# EAGLE library part MC9S08EL32-28 (library freescale-hcs08)
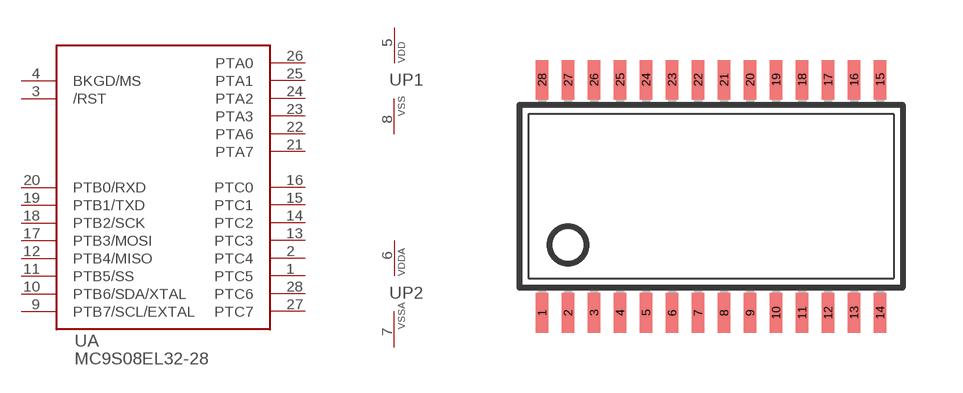
[diagram p13: symbol with the pads of TSSOP28; footprint TSSOP28]

Designator prefix -; gates A=MC9S08EL32-28 P1=VDD-VSS P2=VDDA-VSSA

## MC9S08EL32-28  [TSSOP28]
1  A:PTC5
2  A:PTC4
3  A:/RST
4  A:BKGD/MS
5  P1:VDD  pwr
6  P2:VDDA  pwr
7  P2:VSSA  pwr
8  P1:VSS  pwr
9  A:PTB7/SCL/EXTAL
10  A:PTB6/SDA/XTAL
11  A:PTB5/SS
12  A:PTB4/MISO
13  A:PTC3
14  A:PTC2
15  A:PTC1
16  A:PTC0
17  A:PTB3/MOSI
18  A:PTB2/SCK
19  A:PTB1/TXD
20  A:PTB0/RXD
21  A:PTA7
22  A:PTA6
23  A:PTA3
24  A:PTA2
25  A:PTA1
26  A:PTA0
27  A:PTC7
28  A:PTC6

## Footprint TSSOP28 (pad centres in mm)
Thin Shrink Small Outline Plastic 28 MAX3223-MAX3243.pdf
smd 0.305 x 0.991: 1 -4.225,-2.918; 2 -3.575,-2.918; 3 -2.925,-2.918; 4 -2.275,-2.918; 5 -1.625,-2.918; 6 -0.975,-2.918; 7 -0.325,-2.918; 8 0.325,-2.918; 9 0.975,-2.918; 10 1.625,-2.918; 11 2.275,-2.918; 12 2.925,-2.918; 13 3.575,-2.918; 14 4.225,-2.918; 15 4.225,2.918; 16 3.575,2.918; 17 2.925,2.918; 18 2.275,2.918; 19 1.625,2.918; 20 0.975,2.918; 21 0.325,2.918; 22 -0.325,2.918; 23 -0.975,2.918; 24 -1.625,2.918; 25 -2.275,2.918; 26 -2.925,2.918; 27 -3.575,2.918; 28 -4.225,2.918